# Altium footprint library RES-PRESET-3006P.PcbLib: 1 footprints
Each footprint in its own frame and in the unit in brackets; x right, y up, seen from the top. Pads: shape width x height; smd on the part's side, far side on the other; paste and mask are expansions set on the pad; w line width, h text height; cw(c..) or ccw(c..) is an arc to the next point about the centre after c.
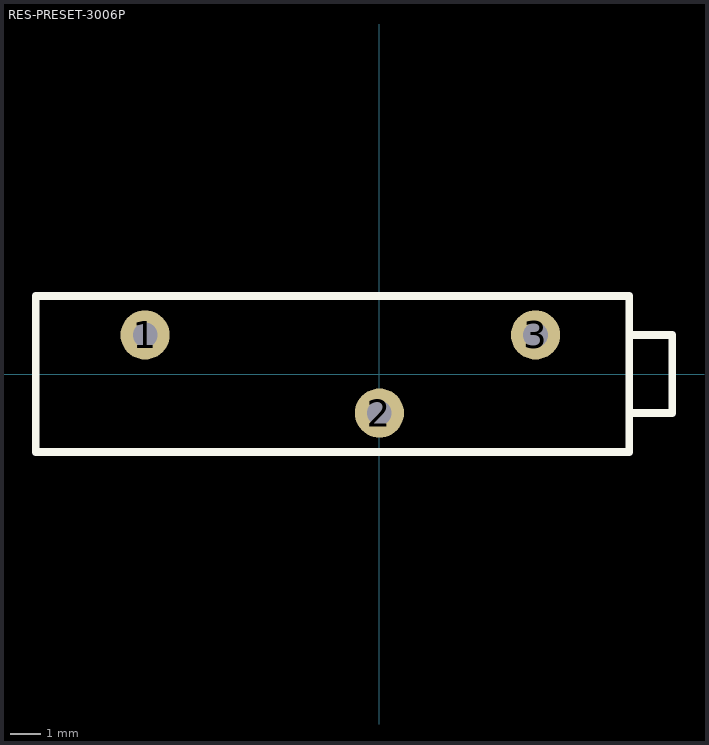
[diagram p0: the footprint, top view; thin cyan lines are the x and y axes]

## RES-PRESET-3006P [mm] "PRESET CERMET 3006P"
pads (3):
  round 1.6 hole 0.8: 1(-7.62,1.27) 2(0,-1.27) 3(5.08,1.27)
Top Overlay:
  lines w0.254: 8.128,-1.27 9.525,-1.27 9.525,1.27 8.128,1.27 ; -11.176,-2.54 8.128,-2.54 8.128,2.54 -11.176,2.54 -11.176,-2.54
3D body "RES-PRESET-3006P.stp": height 2.1, standoff -7.5, extent -11.3,-2.5 9.2,2.5